# Altium footprint library GW_JTLMS1_CM.PcbLib: 1 footprints
Each footprint in its own frame and in the unit in brackets; x right, y up, seen from the top. Pads: shape width x height; smd on the part's side, far side on the other; paste and mask are expansions set on the pad; w line width, h text height; cw(c..) or ccw(c..) is an arc to the next point about the centre after c.
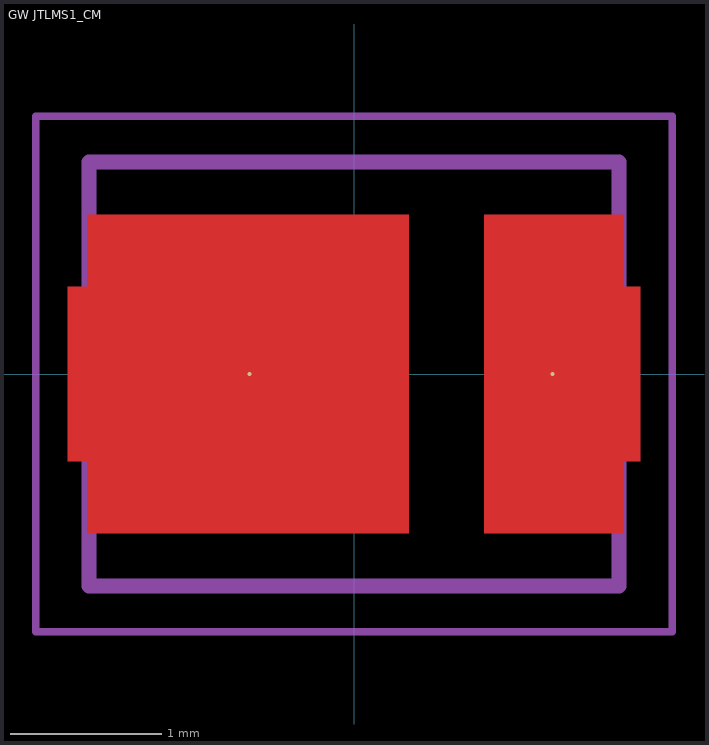
[diagram p0: the footprint, top view; thin cyan lines are the x and y axes]

## GW JTLMS1_CM [mil]
pads (2):
  round 1 smd paste-99999 mask+0: 1(51.57,0) 2(-27.17,0)
Top Layer:
  region: -74.41,-22.64 -74.41,22.64 -69.29,22.64 -69.29,41.34 14.17,41.34 14.17,-41.34 -69.29,-41.34 -69.29,-22.64
  region: 33.86,-41.34 33.86,41.34 70.08,41.34 70.08,22.64 74.41,22.64 74.41,-22.64 70.08,-22.64 70.08,-41.34
Top Paste:
  region: -20.67,-39.37 10.83,-39.37 10.83,39.37 -20.67,39.37
  region: -71.06,-20.67 -65.94,-20.67 -65.94,-39.37 -34.45,-39.37 -34.45,39.37 -65.94,39.37 -65.94,20.67 -71.06,20.67
  region: 36.42,-39.37 36.42,39.37 67.91,39.37 67.91,20.67 72.24,20.67 72.24,-20.67 67.91,-20.67 67.91,-39.37
Assembly Top:
  lines w3.94: -68.9,-55.12 68.9,-55.12 68.9,55.12 -68.9,55.12 -68.9,-55.12
Courtyard Top:
  lines w1.97: -82.68,-66.93 82.68,-66.93 82.68,66.93 -82.68,66.93 -82.68,-66.93
3D body "GW_JTLxS1_20180817_geometry.STEP": height 25.6, standoff 0, extent -68.9,-55.12 68.9,55.12